# EAGLE library part 3PI (library 3pi)
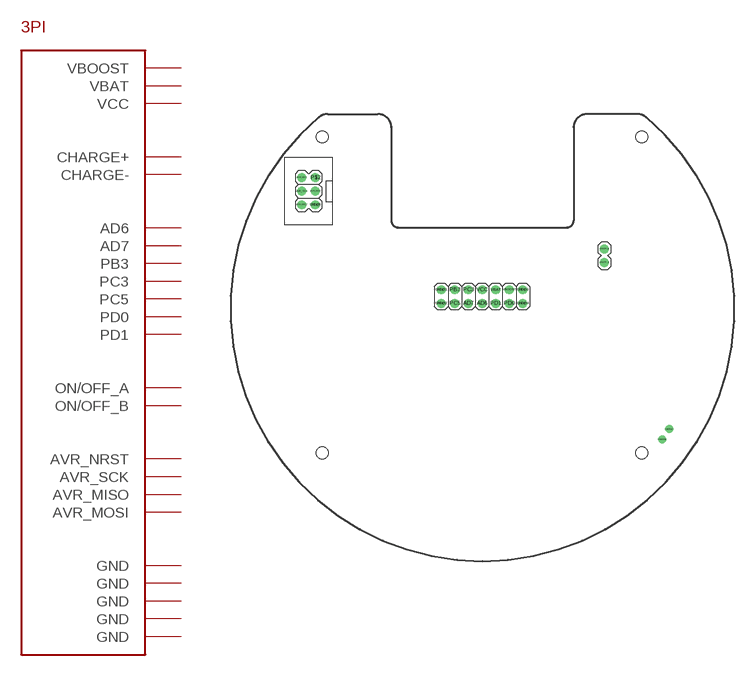
[diagram p0: symbol with the pads of 3PI; footprint 3PI]

Designator prefix -

## 3PI  [3PI]
AD6  AD6
AD7  AD7
AVR_MISO  AVR_MISO
AVR_MOSI  AVR_MOSI
AVR_NRST  AVR_NRST
AVR_SCK  AVR_SCK
CHARGE+  CHARGE+
CHARGE-  CHARGE-
GND@1  GND
GND@2  GND
GND@3  GND
GND@4  GND
GND@5  GND
ON/OFF_A  ON/OFF_A
ON/OFF_B  ON/OFF_B
PB3  PB3
PC3  PC3
PC5  PC5
PD0  PD0
PD1  PD1
VBAT  VBAT
VBOOST  VBOOST
VCC  VCC

## Footprint 3PI (pad centres in mm)
drill 1 pad 1.676 round: AD6 0,-13.97; AD7 -2.54,-13.97; AVR_MISO -33.655,9.525; AVR_MOSI -31.115,6.985; AVR_NRST -33.655,4.445; AVR_SCK -33.655,6.985; GND@1 -7.62,-11.43; GND@2 -7.62,-13.97; GND@3 7.62,-11.43; GND@4 7.62,-13.97; GND@5 -31.115,4.445; ON/OFF_A 22.86,-3.81; ON/OFF_B 22.86,-6.35; P$2 -31.115,9.525; PB3 -5.08,-11.43; PC3 -2.54,-11.43; PC5 -5.08,-13.97; PD0 5.08,-13.97; PD1 2.54,-13.97; VBAT 2.54,-11.43; VBOOST 5.08,-11.43; VCC 0,-11.43
drill 1 round: CHARGE+ 34.925,-37.465; CHARGE- 33.655,-39.37
hole 2.2 at -29.845,-41.91
hole 2.2 at 29.845,-41.91
hole 2.2 at 29.845,17.145
hole 2.2 at -29.845,17.145